# Altium schematic symbol library Molex.SchLib: 8 symbols
Pins are listed as number, name and electrical type; pins without a type are passive.

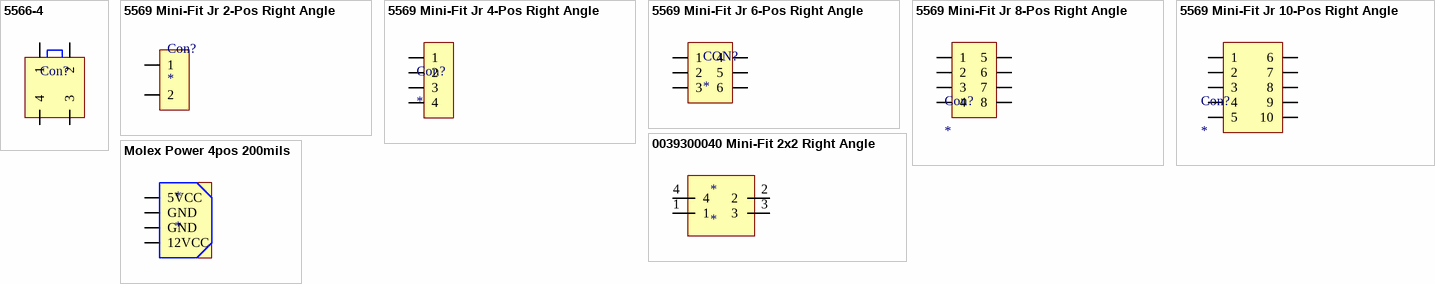
[diagram p0: symbols 5566-4 to Molex Power 4pos 200mils]

## 5566-4
designator Con?  (value not drawn)
4.20mm (.165") Pitch Mini-Fit Jr.™ Header, Dual Row, Vertical, without Snap-in Plastic Peg PCB Lock, 4 Circuits, PA Polyamide Nylon 6/6 94V-2, Tin (Sn) Plating, without Drain Holes
footprint 5566-4
pins: 1, 2, 3, 4

## 5569 Mini-Fit Jr 2-Pos Right Angle
designator Con?
footprint 5569 Mini-Fit Jr 2-Pos Right Angle w/ PCB Mounting Flange (4.20mm (.165") Pitch Mini-Fit Jr.™ Header, Dual Row, Right Angle, with PCB Mounting Flange, 2 Circuits, PA Polyamide Nylon 6/6 94V-0, Tin (Sn) Plating)
pins: 1, 2

## 5569 Mini-Fit Jr 4-Pos Right Angle
designator Con?
footprint 5569 Mini-Fit Jr 4-Pos Right Angle (4.20mm (.165") Pitch Mini-Fit Jr.™ Header, Dual Row, Right Angle, with PCB Mounting Flange, 4 Circuits, PA Polyamide Nylon 6/6 94V-0, Tin (Sn) Plating)
pins: 1, 2, 3, 4

## 5569 Mini-Fit Jr 6-Pos Right Angle
designator CON?
Digikey part Number: WM1353-ND
footprint 6-POS 5569 Mini-Fit Jr 2 (Right Angle w/ Press-Fit Pegs)
pins: 1, 2, 3, 4, 5, 6

## 5569 Mini-Fit Jr 8-Pos Right Angle
designator Con?
Digikey Part Number: WM1354-ND
footprint 8-POS 5569 Mini-Fit Jr 1 (Right Angle w/ PCB Mounting Flange)
footprint 8-POS 5569 Mini-Fit Jr 2 (Right Angle w/ Press-Fit Pegs)
pins: 1, 2, 3, 4, 5, 6, 7, 8

## 5569 Mini-Fit Jr 10-Pos Right Angle
designator Con?
Digikey part Number: WM1355-ND
footprint 10-Pos 5569 Mini-Fit Jr 2 (Right Angle w/ Press-Fit Pegs)
footprint 10-Pos 5569 Mini-Fit Jr 1 (Right Angle w/ PCB Mounting Flange)
pins: 1, 2, 3, 4, 5, 6, 7, 8, 9, 10

## 0039300040 Mini-Fit 2x2 Right Angle
designator *
footprint 0039300040 MINI-FIT JR 4-Pos Right Angle
pins: 1, 2, 3, 4

## Molex Power 4pos 200mils
designator *
footprint 4-POS 200mil Power Connector
pins: 1 5VCC, 2 GND, 3 GND, 4 12VCC